# Altium footprint library Cap.PcbLib: 1 footprints
Each footprint in its own frame and in the unit in brackets; x right, y up, seen from the top. Pads: shape width x height; smd on the part's side, far side on the other; paste and mask are expansions set on the pad; w line width, h text height; cw(c..) or ccw(c..) is an arc to the next point about the centre after c.
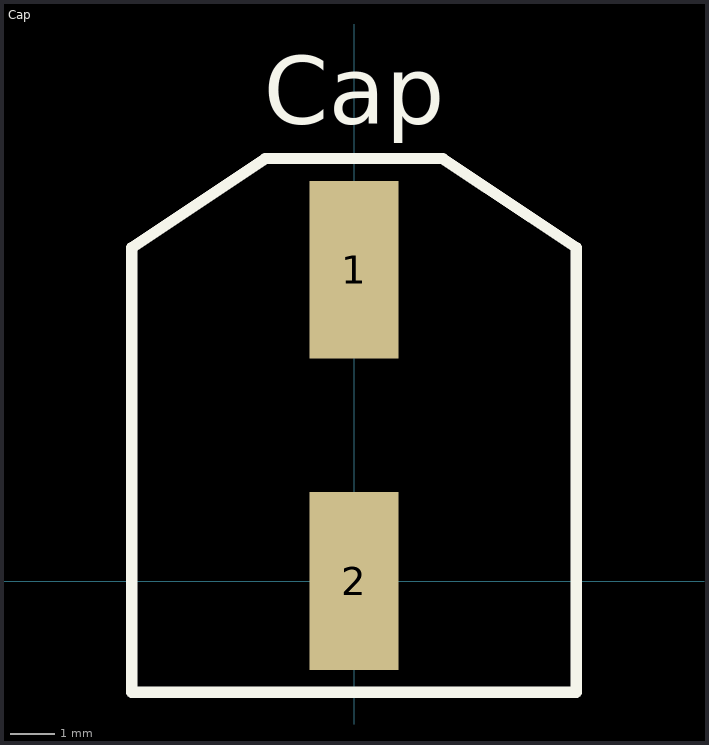
[diagram p0: the footprint, top view; thin cyan lines are the x and y axes]

## Cap [mm]
pads (2):
  rect 2x4 smd: 1(0,7) 2(0,0)
Top Overlay:
  lines w0.254: 0,-2.5 -5,-2.5 -5,7.5 -2,9.5 0,9.5 2,9.5 5,7.5 5,-2.5 0,-2.5
  text "Cap" at -2.032,10.287 h1.52